# Altium schematic symbol library C0805C220J5GACTU.SchLib: 2 symbols
Pins are listed as number, name and electrical type; pins without a type are passive.

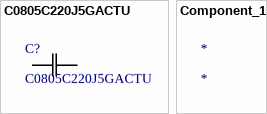
[diagram p0: symbols C0805C220J5GACTU to Component_1]

## C0805C220J5GACTU
designator C?
No Description Available; Vendor: Kemet; SourceLibrary: Kemet_2020-03-25_2b; Built_By: EMA_Frank; Source_Library: Kemet_2020-03-25_2.xlr; Type: DEV; Manufacturer_Part_Number: C0805C220J5GACTU; Copyright: Copyright (C) 2021 Accelerated Designs. All rights reserved; RefDes: RefDes
footprint CAPC220145_90N_KEM
pins: 1, 2

## Component_1
designator *